# EAGLE library part TW-09-02-SD-170-SMT (library m-pad)
SAMTEC Board Stacker TW-09-02-S-D-170-SM-(P/TR) 09: Number of pins 02: Lead Style -S: Plating Option -D: Row Option 170: Stacker Height -P : Pick and Place Pad -TR: Tape & Reel Packaging Please send any comments to: messi@users.sourceforge.net
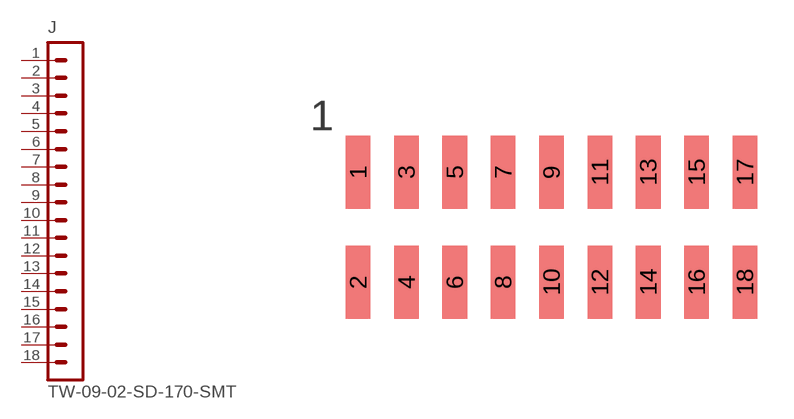
[diagram p37: symbol with the pads of TW-09-02-SD; footprint TW-09-02-SD]

Designator prefix J

## TW-09-02-SD-170-SMT  [TW-09-02-SD]
1  1  pas
2  2  pas
3  3  pas
4  4  pas
5  5  pas
6  6  pas
7  7  pas
8  8  pas
9  9  pas
10  10  pas
11  11  pas
12  12  pas
13  13  pas
14  14  pas
15  15  pas
16  16  pas
17  17  pas
18  18  pas

## Footprint TW-09-02-SD (pad centres in mm)
SAMTEC TW-09-02-SD-170-SMT Board Stacker Please send any comments to: messi@users.sourceforge.net
smd 1.02 x 3.025: 1 -8,2.272; 2 -8,-2.272; 3 -6,2.272; 4 -6,-2.272; 5 -4,2.272; 6 -4,-2.272; 7 -2,2.272; 8 -2,-2.272; 9 0,2.272; 10 0,-2.272; 11 2,2.272; 12 2,-2.272; 13 4,2.272; 14 4,-2.272; 15 6,2.272; 16 6,-2.272; 17 8,2.272; 18 8,-2.272